# Altium integrated library MCP9700T-E_TT.IntLib: 1 symbol
Pins are listed as number, name and electrical type; pins without a type are passive.

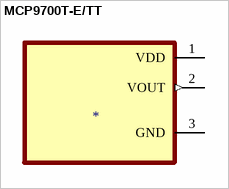
[diagram p0: symbol MCP9700T-E/TT]

## MCP9700T-E/TT
designator ?
Temperature Sensor Analog, Local -40Â°C ~ 125Â°C 10mV/Â°C SOT-23-3; MF: Microchip; MP: MCP9700T-E/TT; Value: *; Price: None; Package: SOT-23-3 Microchip; SnapEDA_Link: https://www.snapeda.com/parts/MCP9700T-E/TT/Microchip/view-part/134539/?ref=snap; Availability: Unavailable
footprint SOT95P237X112-3N
pins: 1 VDD (power), 2 VOUT (out), 3 GND (power)